# EAGLE library part NANO (library sj_arduino)
Arduino Nano
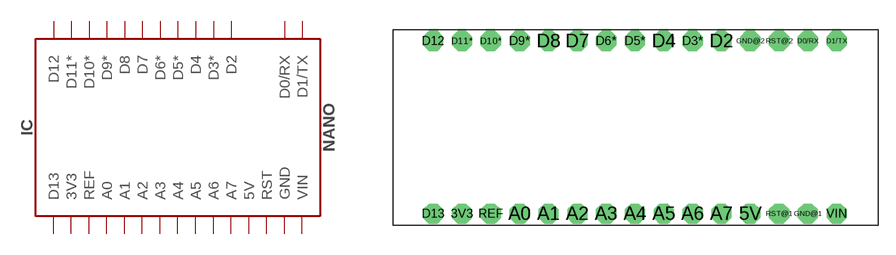
[diagram p0: symbol with the pads of NANO; footprint NANO]

Designator prefix IC

## NANO  [NANO]
3V3  3V3
5V  5V
A0  A0
A1  A1
A2  A2
A3  A3
A4  A4
A5  A5
A6  A6
A7  A7
D0/RX  D0/RX
D1/TX  D1/TX
D2  D2
D3*  D3*
D4  D4
D5*  D5*
D6*  D6*
D7  D7
D8  D8
D9*  D9*
D10*  D10*
D11*  D11*
D12  D12
D13  D13
GND@1  GND
GND@2  GND
REF  REF
RST@1  RST
RST@2  RST
VIN  VIN

## Footprint NANO (pad centres in mm)
Arduino Nano Package
drill 0.838 pad 1.778 octagon: 3V3 -15.24,-7.62; 5V 10.16,-7.62; A0 -10.16,-7.62; A1 -7.62,-7.62; A2 -5.08,-7.62; A3 -2.54,-7.62; A4 0,-7.62; A5 2.54,-7.62; A6 5.08,-7.62; A7 7.62,-7.62; D0/RX 15.24,7.62; D1/TX 17.78,7.62; D2 7.62,7.62; D3* 5.08,7.62; D4 2.54,7.62; D5* 0,7.62; D6* -2.54,7.62; D7 -5.08,7.62; D8 -7.62,7.62; D9* -10.16,7.62; D10* -12.7,7.62; D11* -15.24,7.62; D12 -17.78,7.62; D13 -17.78,-7.62; GND@1 15.24,-7.62; GND@2 10.16,7.62; REF -12.7,-7.62; RST@1 12.7,-7.62; RST@2 12.7,7.62; VIN 17.78,-7.62